# Altium schematic symbol library 1.5 - 精密运放-比较器.SchLib: 533 symbols (part 4 of 4)
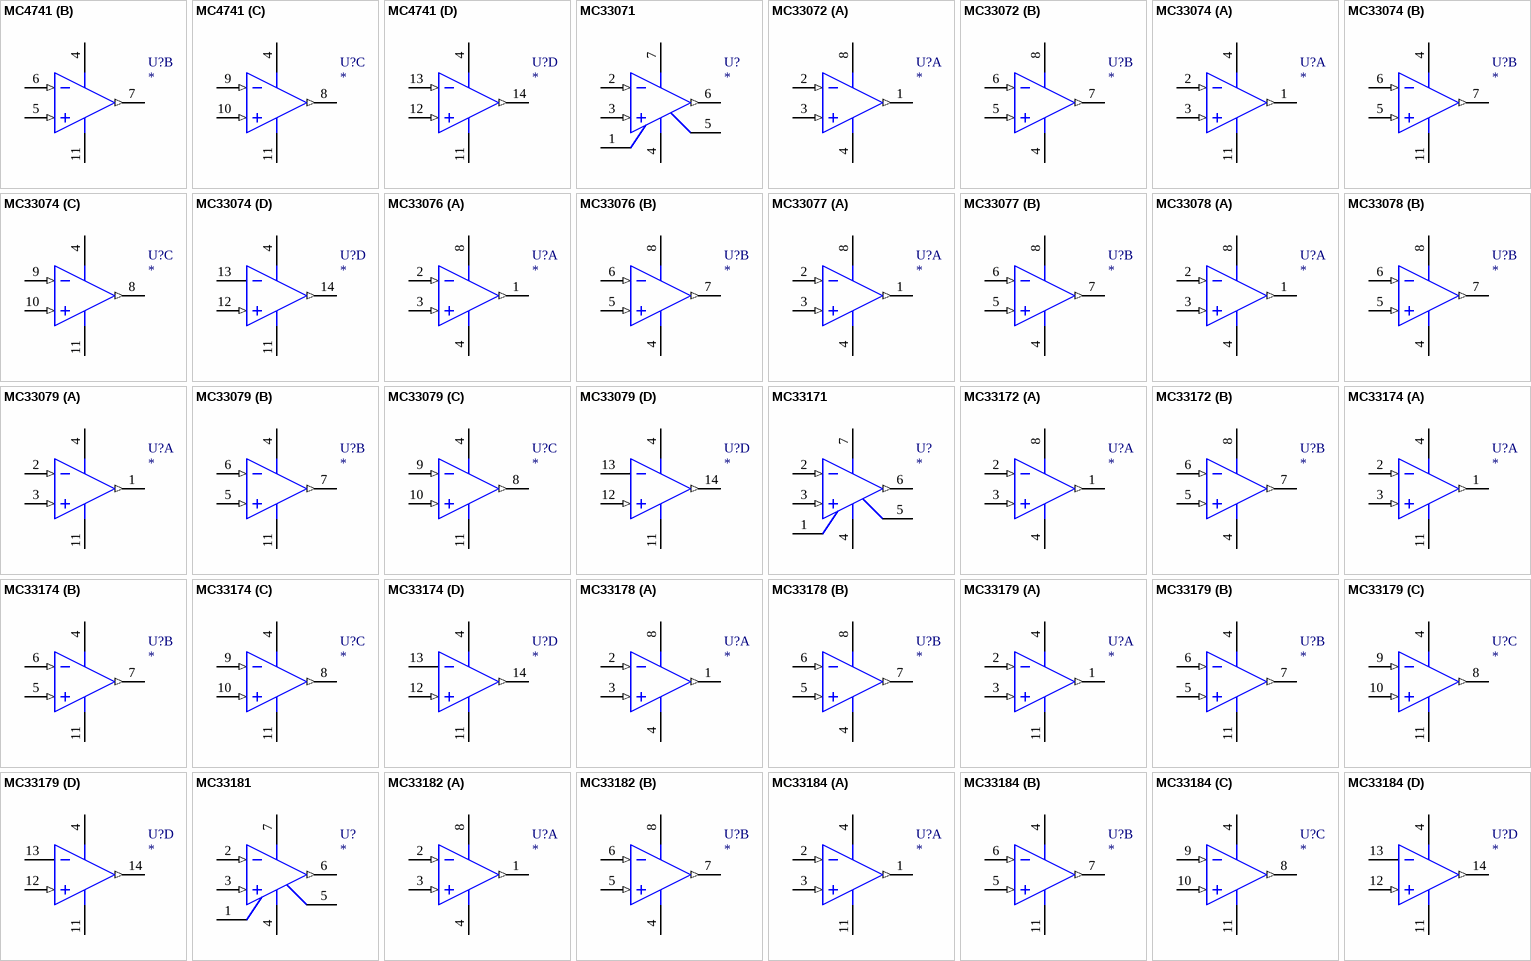
[diagram p26: symbols MC4741 to MC33184]

## MC33178
designator U?
Dual High Output Current, Low Power, Low Noise Operational Amplifier; 联系卖家 免费查找封装: 唯一出售店铺网址https://shop463601444.taobao.com
simulation model MC33178 (SUBCKT)
part A pins: 1 OUT A (out), 2 -IN A (in), 3 +IN A (in), 4 V- (power), 8 V+ (power)
part B pins: 4 V- (power), 5 +IN B (in), 6 -IN B (in), 7 OUT B (out), 8 V+ (power)

## MC33179
designator U?
Quad High Output Current, Low Power, Low Noise Operational Amplifier; 联系卖家 免费查找封装: 唯一出售店铺网址https://shop463601444.taobao.com
simulation model MC33179 (SUBCKT)
part A pins: 1 OUT (out), 2 -IN 1 (in), 3 +IN 1 (in), 4 V+ (power), 11 V- (power)
part B pins: 4 V+ (power), 5 +IN 2 (in), 6 -IN 2 (in), 7 OUT 2 (out), 11 V- (power)
part C pins: 4 V+ (power), 8 OUT 3 (out), 9 -IN 3 (in), 10 +IN 3 (in), 11 V- (power)
part D pins: 4 V+ (power), 11 V- (power), 12 +IN 4 (in), 13 -IN 4, 14 OUT 4 (out)

## MC33181
designator U?
Low Power JFET Input Operational Amplifier; 联系卖家 免费查找封装: 唯一出售店铺网址https://shop463601444.taobao.com
simulation model MC33181 (SUBCKT)
pins: 1 OFFSET NULL, 2 -IN (in), 3 +IN (in), 4 V- (power), 5 OFFSET NULL, 6 OUT (out), 7 V+ (power)

## MC33182
designator U?
Dual Low Power JFET Input Operational Amplifier; 联系卖家 免费查找封装: 唯一出售店铺网址https://shop463601444.taobao.com
simulation model MC33182 (SUBCKT)
part A pins: 1 OUT A (out), 2 -IN A (in), 3 +IN A (in), 4 V- (power), 8 V+ (power)
part B pins: 4 V- (power), 5 +IN B (in), 6 -IN B (in), 7 OUT B (out), 8 V+ (power)

## MC33184
designator U?
Quad Low Power JFET Input Operational Amplifier; 联系卖家 免费查找封装: 唯一出售店铺网址https://shop463601444.taobao.com
simulation model MC33184 (SUBCKT)
part A pins: 1 OUT (out), 2 -IN 1 (in), 3 +IN 1 (in), 4 V+ (power), 11 V- (power)
part B pins: 4 V+ (power), 5 +IN 2 (in), 6 -IN 2 (in), 7 OUT 2 (out), 11 V- (power)
part C pins: 4 V+ (power), 8 OUT 3 (out), 9 -IN 3 (in), 10 +IN 3 (in), 11 V- (power)
part D pins: 4 V+ (power), 11 V- (power), 12 +IN 4 (in), 13 -IN 4, 14 OUT 4 (out)

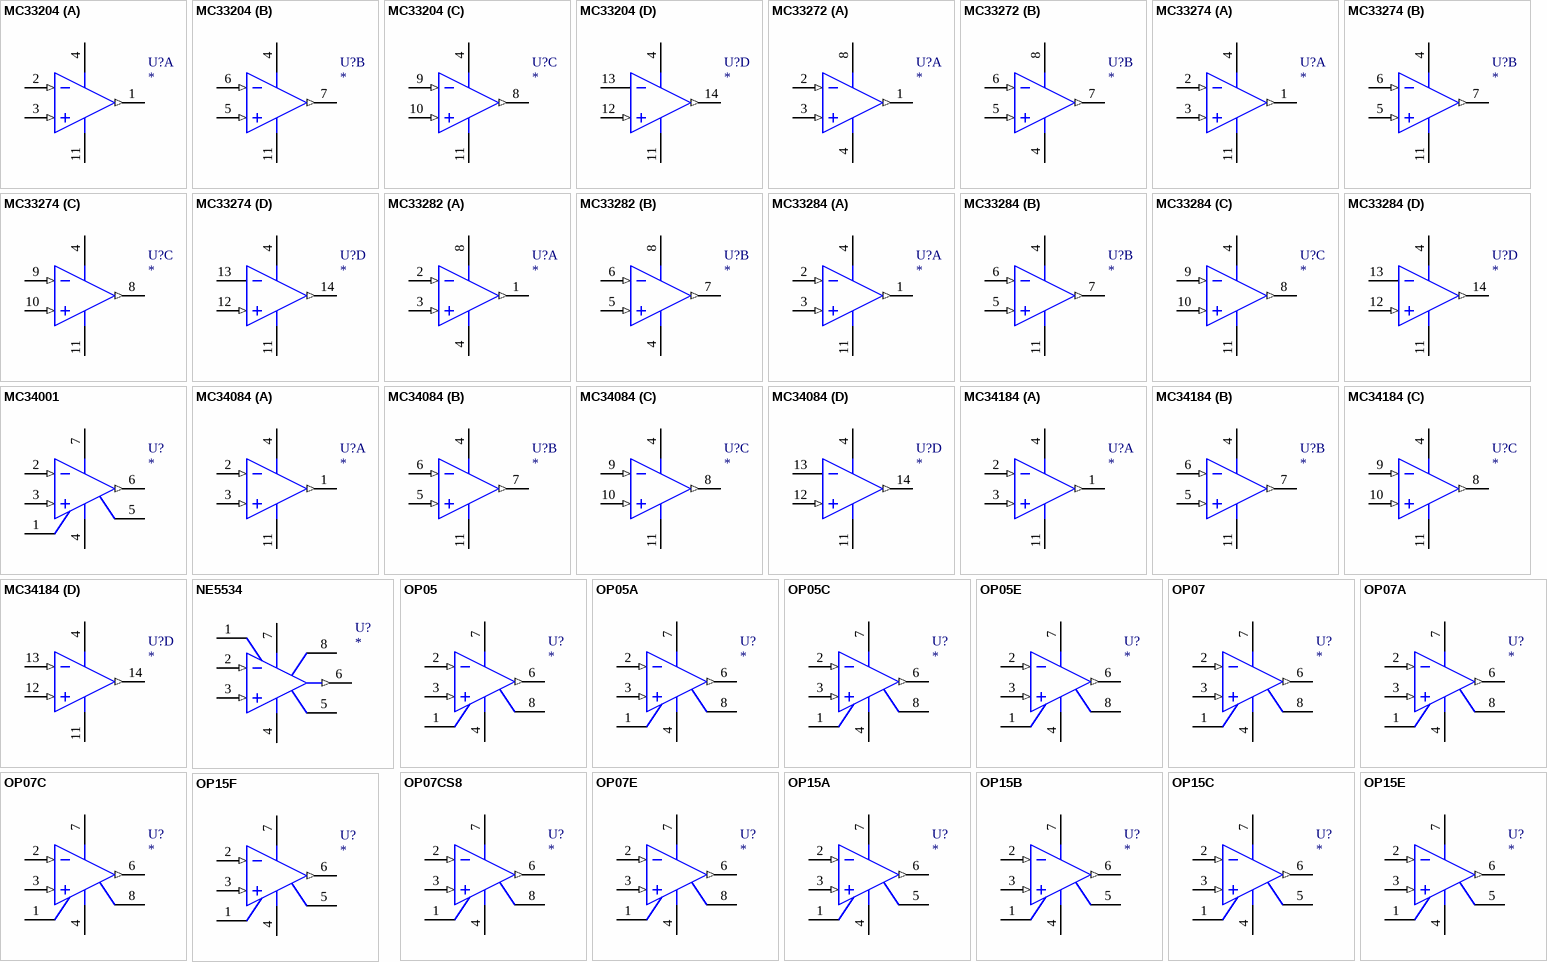
[diagram p20: symbols MC33204 to OP15F]

## MC33204
designator U?
Quad Rail-to-Rail Operational Amplifier; 联系卖家 免费查找封装: 唯一出售店铺网址https://shop463601444.taobao.com
simulation model MC33204 (SUBCKT)
part A pins: 1 OUT (out), 2 -IN 1 (in), 3 +IN 1 (in), 4 V+ (power), 11 V- (power)
part B pins: 4 V+ (power), 5 +IN 2 (in), 6 -IN 2 (in), 7 OUT 2 (out), 11 V- (power)
part C pins: 4 V+ (power), 8 OUT 3 (out), 9 -IN 3 (in), 10 +IN 3 (in), 11 V- (power)
part D pins: 4 V+ (power), 11 V- (power), 12 +IN 4 (in), 13 -IN 4, 14 OUT 4 (out)

## MC33272
designator U?
Dual High Performance Operational Amplifier; 联系卖家 免费查找封装: 唯一出售店铺网址https://shop463601444.taobao.com
simulation model MC33272 (SUBCKT)
part A pins: 1 OUT A (out), 2 -IN A (in), 3 +IN A (in), 4 V- (power), 8 V+ (power)
part B pins: 4 V- (power), 5 +IN B (in), 6 -IN B (in), 7 OUT B (out), 8 V+ (power)

## MC33274
designator U?
Quad High Performance Operational Amplifier; 联系卖家 免费查找封装: 唯一出售店铺网址https://shop463601444.taobao.com
simulation model MC33274 (SUBCKT)
part A pins: 1 OUT (out), 2 -IN 1 (in), 3 +IN 1 (in), 4 V+ (power), 11 V- (power)
part B pins: 4 V+ (power), 5 +IN 2 (in), 6 -IN 2 (in), 7 OUT 2 (out), 11 V- (power)
part C pins: 4 V+ (power), 8 OUT 3 (out), 9 -IN 3 (in), 10 +IN 3 (in), 11 V- (power)
part D pins: 4 V+ (power), 11 V- (power), 12 +IN 4 (in), 13 -IN 4, 14 OUT 4 (out)

## MC33282
designator U?
Dual JFET Operational Amplifier; 联系卖家 免费查找封装: 唯一出售店铺网址https://shop463601444.taobao.com
simulation model MC33282 (SUBCKT)
part A pins: 1 OUT A (out), 2 -IN A (in), 3 +IN A (in), 4 V- (power), 8 V+ (power)
part B pins: 4 V- (power), 5 +IN B (in), 6 -IN B (in), 7 OUT B (out), 8 V+ (power)

## MC33284
designator U?
Quad JFET Operational Amplifier; 联系卖家 免费查找封装: 唯一出售店铺网址https://shop463601444.taobao.com
simulation model MC33284 (SUBCKT)
part A pins: 1 OUT (out), 2 -IN 1 (in), 3 +IN 1 (in), 4 V+ (power), 11 V- (power)
part B pins: 4 V+ (power), 5 +IN 2 (in), 6 -IN 2 (in), 7 OUT 2 (out), 11 V- (power)
part C pins: 4 V+ (power), 8 OUT 3 (out), 9 -IN 3 (in), 10 +IN 3 (in), 11 V- (power)
part D pins: 4 V+ (power), 11 V- (power), 12 +IN 4 (in), 13 -IN 4, 14 OUT 4 (out)

## MC34001
designator U?
JFET Input Operational Amplifier; 联系卖家 免费查找封装: 唯一出售店铺网址https://shop463601444.taobao.com
simulation model MC34001 (SUBCKT)
pins: 1 OFFSET NULL, 2 IN- (in), 3 IN+ (in), 4 VEE (power), 5 OFFSET NULL, 6 OUT (out), 7 VCC (power)

## MC34084
designator U?
Quad High Speed JFET Input Operational Amplifier; 联系卖家 免费查找封装: 唯一出售店铺网址https://shop463601444.taobao.com
simulation model MC34084 (SUBCKT)
part A pins: 1 OUT (out), 2 -IN 1 (in), 3 +IN 1 (in), 4 V+ (power), 11 V- (power)
part B pins: 4 V+ (power), 5 +IN 2 (in), 6 -IN 2 (in), 7 OUT 2 (out), 11 V- (power)
part C pins: 4 V+ (power), 8 OUT 3 (out), 9 -IN 3 (in), 10 +IN 3 (in), 11 V- (power)
part D pins: 4 V+ (power), 11 V- (power), 12 +IN 4 (in), 13 -IN 4, 14 OUT 4 (out)

## MC34184
designator U?
Quad Low Power, High Slew Rate, Wide Bandwidth, JFET Input Operational Amplifier; 联系卖家 免费查找封装: 唯一出售店铺网址https://shop463601444.taobao.com
simulation model MC34184 (SUBCKT)
part A pins: 1 OUT (out), 2 IN- (in), 3 IN+ (in), 4 VCC (power), 11 VEE (power)
part B pins: 4 VCC (power), 5 IN+ (in), 6 IN- (in), 7 OUT (out), 11 VEE (power)
part C pins: 4 VCC (power), 8 OUT (out), 9 IN- (in), 10 IN+ (in), 11 VEE (power)
part D pins: 4 VCC (power), 11 VEE (power), 12 IN+ (in), 13 IN- (in), 14 OUT (out)

## NE5534
designator U?
Low-Noise Operational Amplifiers; 联系卖家 免费查找封装: 唯一出售店铺网址https://shop463601444.taobao.com
simulation model NE5534 (SUBCKT)
pins: 1 BAL, 2 IN- (in), 3 IN+ (in), 4 VCC- (power), 5 COMP, 6 OUT (out), 7 VCC+ (power), 8 COMP/BAL

## OP05
designator U?
Operational Amplifier; 联系卖家 免费查找封装: 唯一出售店铺网址https://shop463601444.taobao.com
footprint DIP-8
simulation model OP05 (SUBCKT)
pins: 1 OFFSET ADJUST, 2 -IN (in), 3 +IN (in), 4 V- (power), 6 OUT (out), 7 V+ (power), 8 OFFSET ADJUST

## OP05A
designator U?
Operational Amplifier; 联系卖家 免费查找封装: 唯一出售店铺网址https://shop463601444.taobao.com
footprint DIP-8
simulation model OP05A (SUBCKT)
pins: 1 OFFSET ADJUST, 2 -IN (in), 3 +IN (in), 4 V- (power), 6 OUT (out), 7 V+ (power), 8 OFFSET ADJUST

## OP05C
designator U?
Operational Amplifier; 联系卖家 免费查找封装: 唯一出售店铺网址https://shop463601444.taobao.com
footprint DIP-8
simulation model OP05C (SUBCKT)
pins: 1 OFFSET ADJUST, 2 -IN (in), 3 +IN (in), 4 V- (power), 6 OUT (out), 7 V+ (power), 8 OFFSET ADJUST

## OP05E
designator U?
Operational Amplifier; 联系卖家 免费查找封装: 唯一出售店铺网址https://shop463601444.taobao.com
footprint DIP-8
simulation model OP05E (SUBCKT)
pins: 1 OFFSET ADJUST, 2 -IN (in), 3 +IN (in), 4 V- (power), 6 OUT (out), 7 V+ (power), 8 OFFSET ADJUST

## OP07
designator U?
Precision Operational Amplifier; 联系卖家 免费查找封装: 唯一出售店铺网址https://shop463601444.taobao.com
footprint DIP-8
footprint DIP8
simulation model OP07 (SUBCKT)
pins: 1 TRIM, 2 -IN (in), 3 +IN (in), 4 V- (power), 6 OUT (out), 7 V+ (power), 8 TRIM

## OP07A
designator U?
Precision Operational Amplifier; 联系卖家 免费查找封装: 唯一出售店铺网址https://shop463601444.taobao.com
footprint DIP-8
footprint DIP8
simulation model OP07A (SUBCKT)
pins: 1 TRIM, 2 -IN (in), 3 +IN (in), 4 V- (power), 6 OUT (out), 7 V+ (power), 8 TRIM

## OP07C
designator U?
Precision Operational Amplifier; 联系卖家 免费查找封装: 唯一出售店铺网址https://shop463601444.taobao.com
footprint DIP-8
footprint DIP8
simulation model OP07C (SUBCKT)
pins: 1 TRIM, 2 -IN (in), 3 +IN (in), 4 V- (power), 6 OUT (out), 7 V+ (power), 8 TRIM

## OP07CS8
designator U?
Precision Operational Amplifier; 联系卖家 免费查找封装: 唯一出售店铺网址https://shop463601444.taobao.com
footprint DIP-8
footprint DIP8
simulation model OP07CS8 (SUBCKT)
pins: 1 TRIM, 2 -IN (in), 3 +IN (in), 4 V- (power), 6 OUT (out), 7 V+ (power), 8 TRIM

## OP07E
designator U?
Precision Operational Amplifier; 联系卖家 免费查找封装: 唯一出售店铺网址https://shop463601444.taobao.com
footprint DIP-8
footprint DIP8
simulation model OP07E (SUBCKT)
pins: 1 TRIM, 2 -IN (in), 3 +IN (in), 4 V- (power), 6 OUT (out), 7 V+ (power), 8 TRIM

## OP15A
designator U?
Precision, High Speed JFET-Input Operational Amplifier; 联系卖家 免费查找封装: 唯一出售店铺网址https://shop463601444.taobao.com
simulation model OP15A (SUBCKT)
pins: 1 TRIM, 2 -IN (in), 3 +IN (in), 4 V- (power), 5 TRIM, 6 OUT (out), 7 V+ (power)

## OP15B
designator U?
Precision, High Speed JFET-Input Operational Amplifier; 联系卖家 免费查找封装: 唯一出售店铺网址https://shop463601444.taobao.com
simulation model OP15B (SUBCKT)
pins: 1 TRIM, 2 -IN (in), 3 +IN (in), 4 V- (power), 5 TRIM, 6 OUT (out), 7 V+ (power)

## OP15C
designator U?
Precision, High Speed JFET-Input Operational Amplifier; 联系卖家 免费查找封装: 唯一出售店铺网址https://shop463601444.taobao.com
simulation model OP15C (SUBCKT)
pins: 1 TRIM, 2 -IN (in), 3 +IN (in), 4 V- (power), 5 TRIM, 6 OUT (out), 7 V+ (power)

## OP15E
designator U?
Precision, High Speed JFET-Input Operational Amplifier; 联系卖家 免费查找封装: 唯一出售店铺网址https://shop463601444.taobao.com
simulation model OP15E (SUBCKT)
pins: 1 TRIM, 2 -IN (in), 3 +IN (in), 4 V- (power), 5 TRIM, 6 OUT (out), 7 V+ (power)

## OP15F
designator U?
Precision, High Speed JFET-Input Operational Amplifier; 联系卖家 免费查找封装: 唯一出售店铺网址https://shop463601444.taobao.com
simulation model OP15F (SUBCKT)
pins: 1 TRIM, 2 -IN (in), 3 +IN (in), 4 V- (power), 5 TRIM, 6 OUT (out), 7 V+ (power)

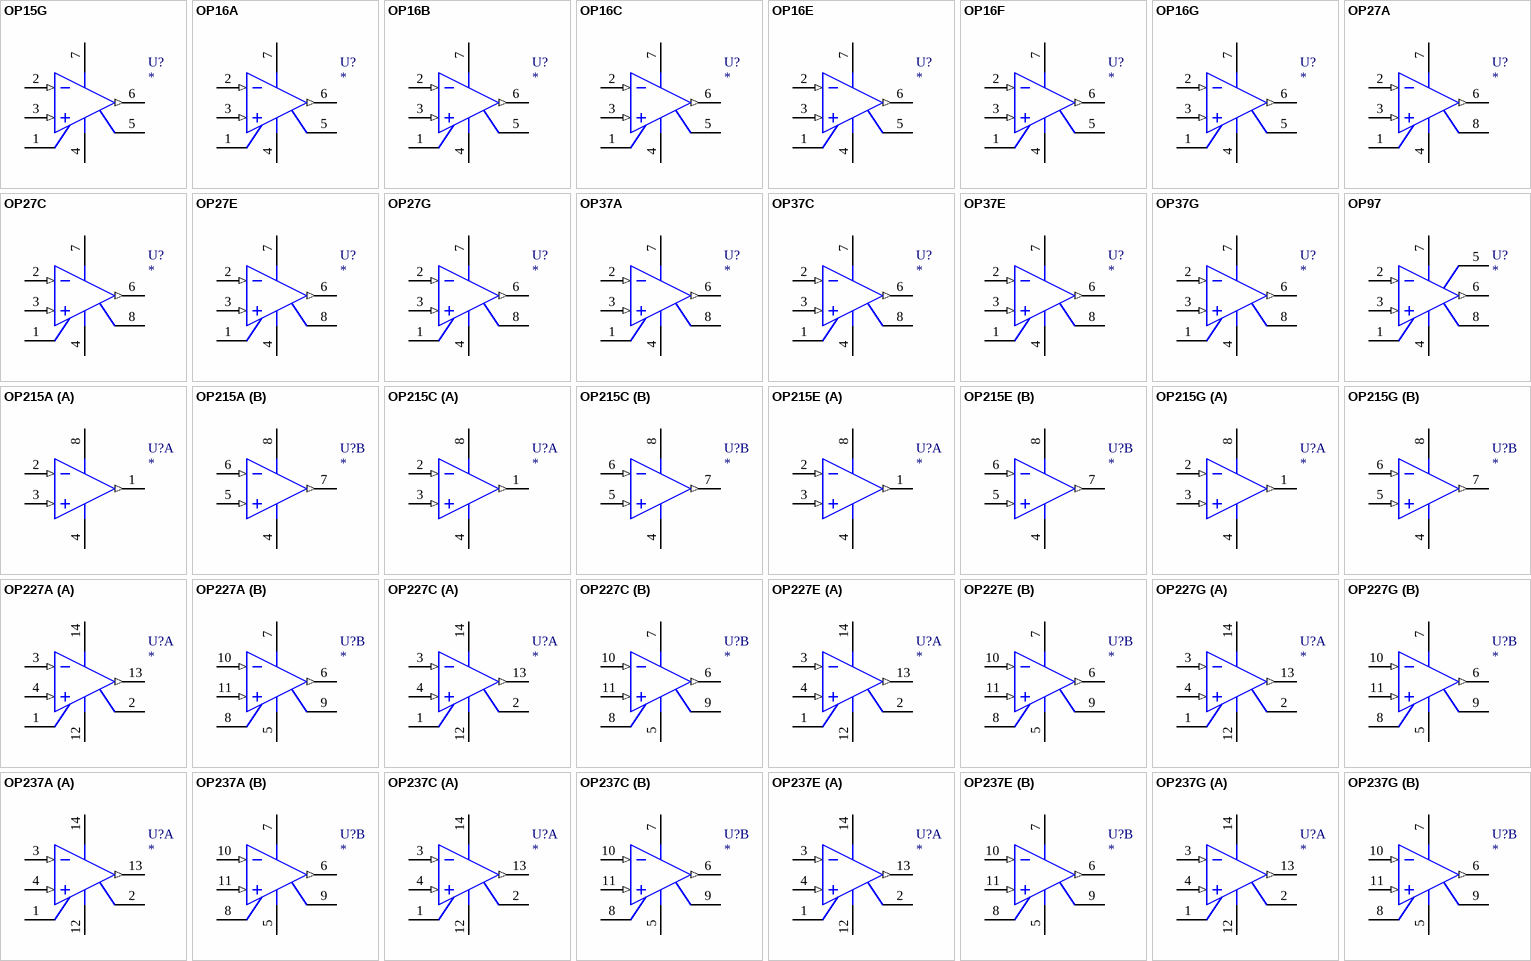
[diagram p21: symbols OP15G to OP237G]

## OP15G
designator U?
Precision, High Speed JFET-Input Operational Amplifier; 联系卖家 免费查找封装: 唯一出售店铺网址https://shop463601444.taobao.com
simulation model OP15G (SUBCKT)
pins: 1 TRIM, 2 -IN (in), 3 +IN (in), 4 V- (power), 5 TRIM, 6 OUT (out), 7 V+ (power)

## OP16A
designator U?
Precision, High Speed JFET-Input Operational Amplifier; 联系卖家 免费查找封装: 唯一出售店铺网址https://shop463601444.taobao.com
simulation model OP16A (SUBCKT)
pins: 1 TRIM, 2 -IN (in), 3 +IN (in), 4 V- (power), 5 TRIM, 6 OUT (out), 7 V+ (power)

## OP16B
designator U?
Precision, High Speed JFET-Input Operational Amplifier; 联系卖家 免费查找封装: 唯一出售店铺网址https://shop463601444.taobao.com
simulation model OP16B (SUBCKT)
pins: 1 TRIM, 2 -IN (in), 3 +IN (in), 4 V- (power), 5 TRIM, 6 OUT (out), 7 V+ (power)

## OP16C
designator U?
Precision, High Speed JFET-Input Operational Amplifier; 联系卖家 免费查找封装: 唯一出售店铺网址https://shop463601444.taobao.com
simulation model OP16C (SUBCKT)
pins: 1 TRIM, 2 -IN (in), 3 +IN (in), 4 V- (power), 5 TRIM, 6 OUT (out), 7 V+ (power)

## OP16E
designator U?
Precision, High Speed JFET-Input Operational Amplifier; 联系卖家 免费查找封装: 唯一出售店铺网址https://shop463601444.taobao.com
simulation model OP16E (SUBCKT)
pins: 1 TRIM, 2 -IN (in), 3 +IN (in), 4 V- (power), 5 TRIM, 6 OUT (out), 7 V+ (power)

## OP16F
designator U?
Precision, High Speed JFET-Input Operational Amplifier; 联系卖家 免费查找封装: 唯一出售店铺网址https://shop463601444.taobao.com
simulation model OP16F (SUBCKT)
pins: 1 TRIM, 2 -IN (in), 3 +IN (in), 4 V- (power), 5 TRIM, 6 OUT (out), 7 V+ (power)

## OP16G
designator U?
Precision, High Speed JFET-Input Operational Amplifier; 联系卖家 免费查找封装: 唯一出售店铺网址https://shop463601444.taobao.com
simulation model OP16G (SUBCKT)
pins: 1 TRIM, 2 -IN (in), 3 +IN (in), 4 V- (power), 5 TRIM, 6 OUT (out), 7 V+ (power)

## OP27A
designator U?
Low Noise, High Speed Precision Operational Amplifier; 联系卖家 免费查找封装: 唯一出售店铺网址https://shop463601444.taobao.com
simulation model OP27A (SUBCKT)
pins: 1 TRIM, 2 -IN (in), 3 +IN (in), 4 V- (power), 6 OUT (out), 7 V+ (power), 8 TRIM

## OP27C
designator U?
Low Noise, High Speed Precision Operational Amplifier; 联系卖家 免费查找封装: 唯一出售店铺网址https://shop463601444.taobao.com
simulation model OP27C (SUBCKT)
pins: 1 TRIM, 2 -IN (in), 3 +IN (in), 4 V- (power), 6 OUT (out), 7 V+ (power), 8 TRIM

## OP27E
designator U?
Low Noise, High Speed Precision Operational Amplifier; 联系卖家 免费查找封装: 唯一出售店铺网址https://shop463601444.taobao.com
simulation model OP27E (SUBCKT)
pins: 1 TRIM, 2 -IN (in), 3 +IN (in), 4 V- (power), 6 OUT (out), 7 V+ (power), 8 TRIM

## OP27G
designator U?
Low Noise, High Speed Precision Operational Amplifier; 联系卖家 免费查找封装: 唯一出售店铺网址https://shop463601444.taobao.com
simulation model OP27G (SUBCKT)
pins: 1 TRIM, 2 -IN (in), 3 +IN (in), 4 V- (power), 6 OUT (out), 7 V+ (power), 8 TRIM

## OP37A
designator U?
Low Noise, High Speed Precision Operational Amplifier; 联系卖家 免费查找封装: 唯一出售店铺网址https://shop463601444.taobao.com
footprint DIP-8
simulation model OP37A (SUBCKT)
pins: 1 TRIM, 2 -IN (in), 3 +IN (in), 4 V- (power), 6 OUT (out), 7 V+ (power), 8 TRIM

## OP37C
designator U?
Low Noise, High Speed Precision Operational Amplifier; 联系卖家 免费查找封装: 唯一出售店铺网址https://shop463601444.taobao.com
footprint DIP-8
simulation model OP37C (SUBCKT)
pins: 1 TRIM, 2 -IN (in), 3 +IN (in), 4 V- (power), 6 OUT (out), 7 V+ (power), 8 TRIM

## OP37E
designator U?
Low Noise, High Speed Precision Operational Amplifier; 联系卖家 免费查找封装: 唯一出售店铺网址https://shop463601444.taobao.com
footprint DIP-8
simulation model OP37E (SUBCKT)
pins: 1 TRIM, 2 -IN (in), 3 +IN (in), 4 V- (power), 6 OUT (out), 7 V+ (power), 8 TRIM

## OP37G
designator U?
Low Noise, High Speed Precision Operational Amplifier; 联系卖家 免费查找封装: 唯一出售店铺网址https://shop463601444.taobao.com
footprint DIP-8
simulation model OP37G (SUBCKT)
pins: 1 TRIM, 2 -IN (in), 3 +IN (in), 4 V- (power), 6 OUT (out), 7 V+ (power), 8 TRIM

## OP97
designator U?
Voltage-Feedback Operational Amplifier; 联系卖家 免费查找封装: 唯一出售店铺网址https://shop463601444.taobao.com
simulation model OP97 (SUBCKT)
pins: 1 TRIM, 2 -IN (in), 3 +IN (in), 4 V- (power), 5 OVER COMP, 6 OUT (out), 7 V+ (power), 8 TRIM

## OP215A
designator U?
Dual Precision JFET Input Operational Amplifier; 联系卖家 免费查找封装: 唯一出售店铺网址https://shop463601444.taobao.com
simulation model OP215A (SUBCKT)
part A pins: 1 OUT A (out), 2 -IN A (in), 3 +IN A (in), 4 V- (power), 8 V+ (power)
part B pins: 4 V- (power), 5 +IN B (in), 6 -IN B (in), 7 OUT B (out), 8 V+ (power)

## OP215C
designator U?
Dual Precision JFET Input Operational Amplifier; 联系卖家 免费查找封装: 唯一出售店铺网址https://shop463601444.taobao.com
simulation model OP215C (SUBCKT)
part A pins: 1 OUT A (out), 2 -IN A (in), 3 +IN A (in), 4 V- (power), 8 V+ (power)
part B pins: 4 V- (power), 5 +IN B (in), 6 -IN B (in), 7 OUT B (out), 8 V+ (power)

## OP215E
designator U?
Dual Precision JFET Input Operational Amplifier; 联系卖家 免费查找封装: 唯一出售店铺网址https://shop463601444.taobao.com
simulation model OP215E (SUBCKT)
part A pins: 1 OUT A (out), 2 -IN A (in), 3 +IN A (in), 4 V- (power), 8 V+ (power)
part B pins: 4 V- (power), 5 +IN B (in), 6 -IN B (in), 7 OUT B (out), 8 V+ (power)

## OP215G
designator U?
Dual Precision JFET Input Operational Amplifier; 联系卖家 免费查找封装: 唯一出售店铺网址https://shop463601444.taobao.com
simulation model OP215G (SUBCKT)
part A pins: 1 OUT A (out), 2 -IN A (in), 3 +IN A (in), 4 V- (power), 8 V+ (power)
part B pins: 4 V- (power), 5 +IN B (in), 6 -IN B (in), 7 OUT B (out), 8 V+ (power)

## OP227A
designator U?
Dual Matched Low Noise Precision Operational Amplifier; 联系卖家 免费查找封装: 唯一出售店铺网址https://shop463601444.taobao.com
simulation model OP227A (SUBCKT)
part A pins: 1 NULL(A), 2 NULL(A), 3 -IN(A) (in), 4 +IN(A) (in), 12 V-(A) (power), 13 OUT(A) (out), 14 V+(A) (power)
part B pins: 5 V-(B) (power), 6 OUT(B) (out), 7 V+(B) (power), 8 NULL(B), 9 NULL(B), 10 -IN(B) (in), 11 +IN(B) (in)

## OP227C
designator U?
Dual Matched Low Noise Precision Operational Amplifier; 联系卖家 免费查找封装: 唯一出售店铺网址https://shop463601444.taobao.com
simulation model OP227C (SUBCKT)
part A pins: 1 NULL(A), 2 NULL(A), 3 -IN(A) (in), 4 +IN(A) (in), 12 V-(A) (power), 13 OUT(A) (out), 14 V+(A) (power)
part B pins: 5 V-(B) (power), 6 OUT(B) (out), 7 V+(B) (power), 8 NULL(B), 9 NULL(B), 10 -IN(B) (in), 11 +IN(B) (in)

## OP227E
designator U?
Dual Matched Low Noise Precision Operational Amplifier; 联系卖家 免费查找封装: 唯一出售店铺网址https://shop463601444.taobao.com
simulation model OP227E (SUBCKT)
part A pins: 1 NULL(A), 2 NULL(A), 3 -IN(A) (in), 4 +IN(A) (in), 12 V-(A) (power), 13 OUT(A) (out), 14 V+(A) (power)
part B pins: 5 V-(B) (power), 6 OUT(B) (out), 7 V+(B) (power), 8 NULL(B), 9 NULL(B), 10 -IN(B) (in), 11 +IN(B) (in)

## OP227G
designator U?
Dual Matched Low Noise Precision Operational Amplifier; 联系卖家 免费查找封装: 唯一出售店铺网址https://shop463601444.taobao.com
simulation model OP227G (SUBCKT)
part A pins: 1 NULL(A), 2 NULL(A), 3 -IN(A) (in), 4 +IN(A) (in), 12 V-(A) (power), 13 OUT(A) (out), 14 V+(A) (power)
part B pins: 5 V-(B) (power), 6 OUT(B) (out), 7 V+(B) (power), 8 NULL(B), 9 NULL(B), 10 -IN(B) (in), 11 +IN(B) (in)

## OP237A
designator U?
Dual High Speed Low Noise Precision Operational Amplifier; 联系卖家 免费查找封装: 唯一出售店铺网址https://shop463601444.taobao.com
footprint DIP-14
simulation model OP237A (SUBCKT)
part A pins: 1 NULL(A), 2 NULL(A), 3 -IN(A) (in), 4 +IN(A) (in), 12 V-(A) (power), 13 OUT(A) (out), 14 V+(A) (power)
part B pins: 5 V-(B) (power), 6 OUT(B) (out), 7 V+(B) (power), 8 NULL(B), 9 NULL(B), 10 -IN(B) (in), 11 +IN(B) (in)

## OP237C
designator U?
Dual High Speed Low Noise Precision Operational Amplifier; 联系卖家 免费查找封装: 唯一出售店铺网址https://shop463601444.taobao.com
footprint DIP-14
simulation model OP237C (SUBCKT)
part A pins: 1 NULL(A), 2 NULL(A), 3 -IN(A) (in), 4 +IN(A) (in), 12 V-(A) (power), 13 OUT(A) (out), 14 V+(A) (power)
part B pins: 5 V-(B) (power), 6 OUT(B) (out), 7 V+(B) (power), 8 NULL(B), 9 NULL(B), 10 -IN(B) (in), 11 +IN(B) (in)

## OP237E
designator U?
Dual High Speed Low Noise Precision Operational Amplifier; 联系卖家 免费查找封装: 唯一出售店铺网址https://shop463601444.taobao.com
footprint DIP-14
simulation model OP237E (SUBCKT)
part A pins: 1 NULL(A), 2 NULL(A), 3 -IN(A) (in), 4 +IN(A) (in), 12 V-(A) (power), 13 OUT(A) (out), 14 V+(A) (power)
part B pins: 5 V-(B) (power), 6 OUT(B) (out), 7 V+(B) (power), 8 NULL(B), 9 NULL(B), 10 -IN(B) (in), 11 +IN(B) (in)

## OP237G
designator U?
Dual High Speed Low Noise Precision Operational Amplifier; 联系卖家 免费查找封装: 唯一出售店铺网址https://shop463601444.taobao.com
footprint DIP-14
simulation model OP237G (SUBCKT)
part A pins: 1 NULL(A), 2 NULL(A), 3 -IN(A) (in), 4 +IN(A) (in), 12 V-(A) (power), 13 OUT(A) (out), 14 V+(A) (power)
part B pins: 5 V-(B) (power), 6 OUT(B) (out), 7 V+(B) (power), 8 NULL(B), 9 NULL(B), 10 -IN(B) (in), 11 +IN(B) (in)

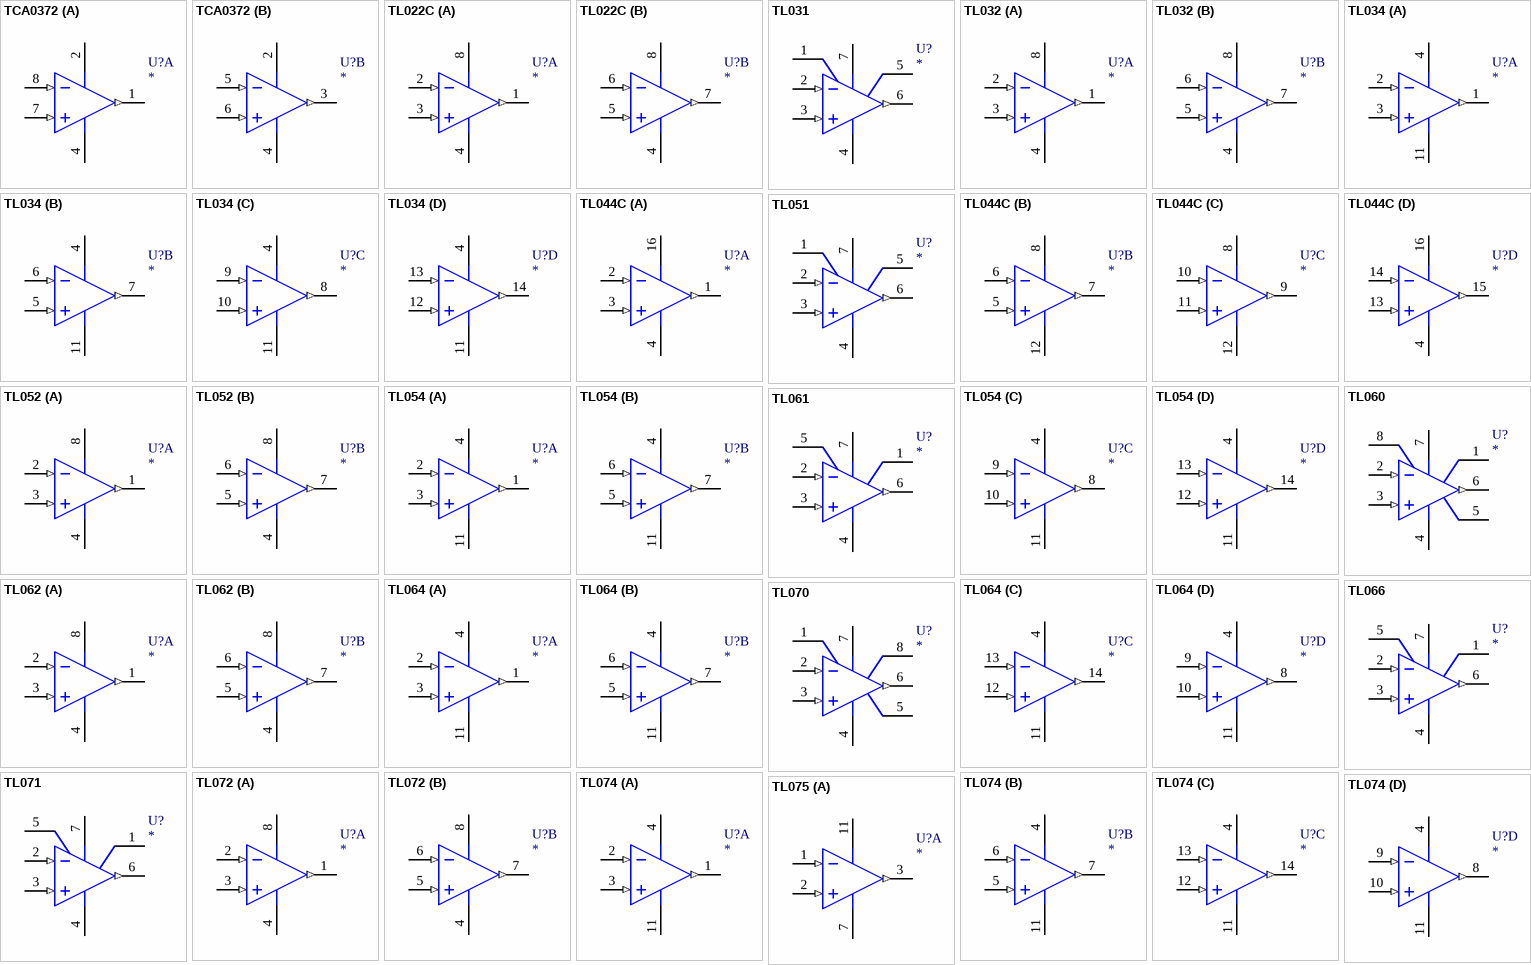
[diagram p22: symbols TCA0372 to TL075]

## TCA0372
designator U?
Dual Power Operational Amplifier; 联系卖家 免费查找封装: 唯一出售店铺网址https://shop463601444.taobao.com
footprint DIP-8
simulation model TCA0372 (SUBCKT)
part A pins: 1 OUT A (out), 2 V+ (power), 4 V- (power), 7 +IN A (in), 8 -IN A (in)
part B pins: 2 V+ (power), 3 OUT A (out), 4 V- (power), 5 -IN B (in), 6 +IN B (in)

## TL022C
designator U?
Dual Low-Power Operational Amplifier; 联系卖家 免费查找封装: 唯一出售店铺网址https://shop463601444.taobao.com
simulation model TL022C (SUBCKT)
part A pins: 1 OUT1 (out), 2 IN- (in), 3 IN+ (in), 4 VCC- (power), 8 VCC+ (power)
part B pins: 4 VCC- (power), 5 IN+ (in), 6 IN- (in), 7 OUT (out), 8 VCC+ (power)

## TL031
designator U?
Enhanced JFET Low-Power Operational Amplifier; 联系卖家 免费查找封装: 唯一出售店铺网址https://shop463601444.taobao.com
footprint DIP-8
simulation model TL031 (SUBCKT)
pins: 1 O.S. N1, 2 IN- (in), 3 IN+ (in), 4 VCC- (power), 5 O.S. N2, 6 OUT (out), 7 VCC+ (power)

## TL032
designator U?
Enhanced JFET Low-Power Low-Offset Dual Operational Amplifiers; 联系卖家 免费查找封装: 唯一出售店铺网址https://shop463601444.taobao.com
footprint DIP-8
simulation model TL032 (SUBCKT)
part A pins: 1 OUT1 (out), 2 IN- (in), 3 IN+ (in), 4 VCC- (power), 8 VCC+ (power)
part B pins: 4 VCC- (power), 5 IN2+ (in), 6 IN2- (in), 7 OUT2 (out), 8 VCC+ (power)

## TL034
designator U?
Enhanced JFET Low-Power Low-Offset QUAD Operational Amplifiers; 联系卖家 免费查找封装: 唯一出售店铺网址https://shop463601444.taobao.com
simulation model TL034 (SUBCKT)
part A pins: 1 OUT1 (out), 2 IN1- (in), 3 IN1+ (in), 4 VCC+ (power), 11 VCC- (power)
part B pins: 4 VCC+ (power), 5 IN2+ (in), 6 IN2- (in), 7 OUT2 (out), 11 VCC- (power)
part C pins: 4 VCC+ (power), 8 OUT3 (out), 9 IN3- (in), 10 IN3+ (in), 11 VCC- (power)
part D pins: 4 VCC+ (power), 11 VCC- (power), 12 IN4+ (in), 13 IN4- (in), 14 OUT4 (out)

## TL044C
designator U?
Quad Low-Power Operational Amplifiers; 联系卖家 免费查找封装: 唯一出售店铺网址https://shop463601444.taobao.com
simulation model TL044C (SUBCKT)
part A pins: 1 OUT1 (out), 2 IN1- (in), 3 IN1+ (in), 4 VCC- (power), 16 VCC+ (power)
part B pins: 5 IN2+ (in), 6 IN2- (in), 7 OUT2 (out), 8 VCC+ (power), 12 VCC- (power)
part C pins: 8 VCC+ (power), 9 OUT3 (out), 10 IN3- (in), 11 IN3+ (in), 12 VCC- (power)
part D pins: 4 VCC- (power), 13 IN4+ (in), 14 IN4- (in), 15 OUT4 (out), 16 VCC+ (power)

## TL051
designator U?
Enhanced JFET Precision Operational Amplifiers; 联系卖家 免费查找封装: 唯一出售店铺网址https://shop463601444.taobao.com
simulation model TL051 (SUBCKT)
pins: 1 O.S. N1, 2 IN- (in), 3 IN+ (in), 4 VCC- (power), 5 O.S. N2, 6 OUT (out), 7 VCC+ (power)

## TL052
designator U?
Enhanced JFET Precision Dual Operational Amplifiers; 联系卖家 免费查找封装: 唯一出售店铺网址https://shop463601444.taobao.com
simulation model TL052 (SUBCKT)
part A pins: 1 OUT1 (out), 2 IN1- (in), 3 IN1+ (in), 4 VCC- (power), 8 VCC+ (power)
part B pins: 4 VCC- (power), 5 IN2+ (in), 6 IN2- (in), 7 OUT2 (out), 8 VCC+ (power)

## TL054
designator U?
Quad Low-Power Operational Amplifiers; 联系卖家 免费查找封装: 唯一出售店铺网址https://shop463601444.taobao.com
simulation model TL054 (SUBCKT)
part A pins: 1 OUT1 (out), 2 IN1- (in), 3 IN1+ (in), 4 VCC+ (power), 11 VCC- (power)
part B pins: 4 VCC+ (power), 5 IN2+ (in), 6 IN2- (in), 7 OUT2 (out), 11 VCC- (power)
part C pins: 4 VCC+ (power), 8 OUT3 (out), 9 IN3- (in), 10 IN3+ (in), 11 VCC- (power)
part D pins: 4 VCC+ (power), 11 VCC- (power), 12 IN4+ (in), 13 IN4- (in), 14 OUT4 (out)

## TL060
designator U?
Low-Power JFET-Input Operational Amplifiers; 联系卖家 免费查找封装: 唯一出售店铺网址https://shop463601444.taobao.com
simulation model TL060 (SUBCKT)
pins: 1 N1/COMP, 2 IN- (in), 3 IN+ (in), 4 VCC- (power), 5 O.S. N2, 6 OUT (out), 7 VCC+ (power), 8 COMP

## TL061
designator U?
Low-Power JFET-Input Operational Amplifiers; 联系卖家 免费查找封装: 唯一出售店铺网址https://shop463601444.taobao.com
simulation model TL061 (SUBCKT)
pins: 1 O.S N1, 2 IN- (in), 3 IN+ (in), 4 VCC- (power), 5 O.S. N2, 6 OUT (out), 7 VCC+ (power)

## TL062
designator U?
Low-Power JFET-Input Operational Amplifier; 联系卖家 免费查找封装: 唯一出售店铺网址https://shop463601444.taobao.com
simulation model TL062 (SUBCKT)
part A pins: 1 OUT1 (out), 2 IN1- (in), 3 IN1+ (in), 4 VCC- (power), 8 VCC+ (power)
part B pins: 4 VCC- (power), 5 IN2+ (in), 6 IN2- (in), 7 OUT2 (out), 8 VCC+ (power)

## TL064
designator U?
Low-Power JFET-Input Operational Amplifiers; 联系卖家 免费查找封装: 唯一出售店铺网址https://shop463601444.taobao.com
simulation model TL064 (SUBCKT)
part A pins: 1 OUT1 (out), 2 IN1- (in), 3 IN1+ (in), 4 VCC+ (power), 11 VCC- (power)
part B pins: 4 VCC+ (power), 5 IN2+ (in), 6 IN2- (in), 7 OUT2 (out), 11 VCC- (power)
part C pins: 4 VCC+ (power), 11 VCC- (power), 12 IN3+ (in), 13 IN3- (in), 14 OUT3 (out)
part D pins: 4 VCC+ (power), 8 OUT4 (out), 9 IN4- (in), 10 IN4+ (in), 11 VCC- (power)

## TL066
designator U?
Adjustable Low-Power JFET-Input Operational Amplifiers; 联系卖家 免费查找封装: 唯一出售店铺网址https://shop463601444.taobao.com
simulation model TL066 (SUBCKT)
pins: 1 O.S N1, 2 IN- (in), 3 IN+ (in), 4 VCC- (power), 5 O.S. N2, 6 OUT (out), 7 VCC+ (power)

## TL070
designator U?
Low-Noise  JFET-Input Operational Amplifiers; 联系卖家 免费查找封装: 唯一出售店铺网址https://shop463601444.taobao.com
simulation model TL070 (SUBCKT)
pins: 1 N1/COMP, 2 IN- (in), 3 IN+ (in), 4 VCC- (power), 5 O.S. N2, 6 OUT (out), 7 VCC+ (power), 8 COMP

## TL071
designator U?
Low-Noise  JFET-Input Operational Amplifiers; 联系卖家 免费查找封装: 唯一出售店铺网址https://shop463601444.taobao.com
simulation model TL071 (SUBCKT)
pins: 1 N1/O.S., 2 IN- (in), 3 IN+ (in), 4 VCC- (power), 5 O.S. N2, 6 OUT (out), 7 VCC+ (power)

## TL072
designator U?
Low-Noise JFET-Input Operational Amplifiers; 联系卖家 免费查找封装: 唯一出售店铺网址https://shop463601444.taobao.com
simulation model TL072 (SUBCKT)
part A pins: 1 OUT1 (out), 2 IN1- (in), 3 IN1+ (in), 4 VCC- (power), 8 VCC+ (power)
part B pins: 4 VCC- (power), 5 IN2+ (in), 6 IN2- (in), 7 OUT (out), 8 VCC+ (power)

## TL074
designator U?
Low Noise JFET-Input Operational Amplifiers; 联系卖家 免费查找封装: 唯一出售店铺网址https://shop463601444.taobao.com
simulation model TL074 (SUBCKT)
part A pins: 1 OUT (out), 2 IN1- (in), 3 IN1+ (in), 4 VCC+ (power), 11 VCC- (power)
part B pins: 4 VCC+ (power), 5 IN2+ (in), 6 IN2- (in), 7 OUT (out), 11 VCC- (power)
part C pins: 4 VCC+ (power), 11 VCC- (power), 12 IN3+ (in), 13 IN3- (in), 14 OUT (out)
part D pins: 4 VCC+ (power), 8 OUT (out), 9 IN4- (in), 10 IN4+ (in), 11 VCC- (power)

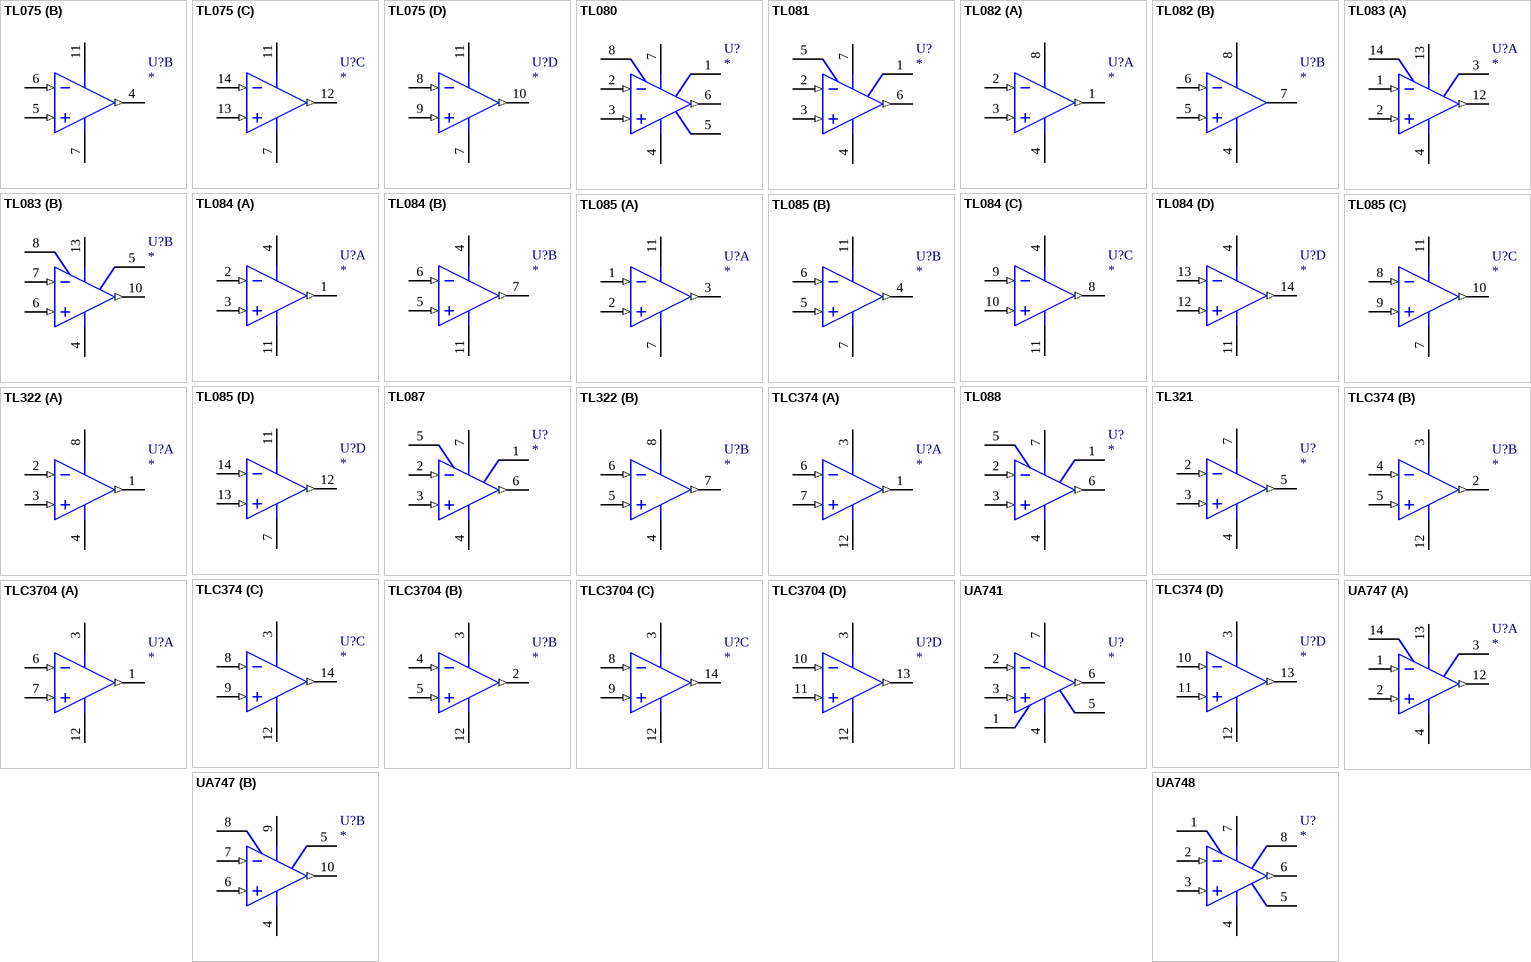
[diagram p23: symbols TL075 to UA748]

## TL075
designator U?
Low Noise JFET-Input Operational Amplifiers; 联系卖家 免费查找封装: 唯一出售店铺网址https://shop463601444.taobao.com
simulation model TL075 (SUBCKT)
part A pins: 1 IN1- (in), 2 IN1+ (in), 3 OUT (out), 7 VCC- (power), 11 VCC+ (power)
part B pins: 4 OUT (out), 5 IN2+ (in), 6 IN2- (in), 7 VCC- (power), 11 VCC+ (power)
part C pins: 7 VCC- (power), 11 VCC+ (power), 12 OUT (out), 13 IN3+ (in), 14 IN3- (in)
part D pins: 7 VCC- (power), 8 IN4- (in), 9 IN4+ (in), 10 OUT (out), 11 VCC+ (power)

## TL080
designator U?
JFET-Input Operational Amplifiers; 联系卖家 免费查找封装: 唯一出售店铺网址https://shop463601444.taobao.com
simulation model TL080 (SUBCKT)
pins: 1 N1/COMP, 2 -IN (in), 3 +IN (in), 4 VCC- (power), 5 O.S. N2, 6 OUT (out), 7 VCC+ (power), 8 COMP

## TL081
designator U?
JFET-Input Operational Amplifiers; 联系卖家 免费查找封装: 唯一出售店铺网址https://shop463601444.taobao.com
simulation model TL081 (SUBCKT)
pins: 1 O.S. N1, 2 -IN (in), 3 +IN (in), 4 VCC- (power), 5 O.S. N2, 6 OUT (out), 7 VCC+ (power)

## TL082
designator U?
JFET-Input Operational Amplifiers; 联系卖家 免费查找封装: 唯一出售店铺网址https://shop463601444.taobao.com
simulation model TL082 (SUBCKT)
part A pins: 1 OUT (out), 2 IN1- (in), 3 IN1+ (in), 4 VCC- (power), 8 VCC+ (power)
part B pins: 4 VCC- (power), 5 IN2+ (in), 6 IN2- (in), 7 OUT, 8 VCC+ (power)

## TL083
designator U?
JFET-Input Operational Amplifiers; 联系卖家 免费查找封装: 唯一出售店铺网址https://shop463601444.taobao.com
simulation model TL083 (SUBCKT)
part A pins: 1 IN1- (in), 2 IN1+ (in), 3 1 O.S.N2, 4 VCC- (power), 12 OUT1 (out), 13 VCC+ (power), 14 1 O.S. N1
part B pins: 4 VCC- (power), 5 2 O.S. N2, 6 IN2+ (in), 7 IN2- (in), 8 2 O.S. N1, 10 OUT (out), 13 VCC+ (power)

## TL084
designator U?
JFET-Input Operational Amplifiers; 联系卖家 免费查找封装: 唯一出售店铺网址https://shop463601444.taobao.com
simulation model TL084 (SUBCKT)
part A pins: 1 OUT (out), 2 IN1- (in), 3 IN1+ (in), 4 VCC+ (power), 11 VCC- (power)
part B pins: 4 VCC+ (power), 5 IN2+ (in), 6 IN2- (in), 7 OUT (out), 11 VCC- (power)
part C pins: 4 VCC+ (power), 8 OUT (out), 9 IN3- (in), 10 IN3+ (in), 11 VCC- (power)
part D pins: 4 VCC+ (power), 11 VCC- (power), 12 IN4+ (in), 13 IN4- (in), 14 OUT (out)

## TL085
designator U?
JFET-Input Operational Amplifier; 联系卖家 免费查找封装: 唯一出售店铺网址https://shop463601444.taobao.com
simulation model TL085 (SUBCKT)
part A pins: 1 IN1- (in), 2 IN2+ (in), 3 OUT (out), 7 VCC- (power), 11 VCC+ (power)
part B pins: 4 OUT (out), 5 IN2+ (in), 6 IN2- (in), 7 VCC- (power), 11 VCC+ (power)
part C pins: 7 VCC- (power), 8 IN3- (in), 9 IN3+ (in), 10 OUT (out), 11 VCC+ (power)
part D pins: 7 VCC- (power), 11 VCC+ (power), 12 OUT (out), 13 IN4+ (in), 14 IN4- (in)

## TL087
designator U?
JFET-Input Operational Amplifiers; 联系卖家 免费查找封装: 唯一出售店铺网址https://shop463601444.taobao.com
footprint DIP-8
simulation model TL087 (SUBCKT)
pins: 1 O.S. N1, 2 -IN (in), 3 +IN (in), 4 VCC- (power), 5 O.S. N2, 6 OUT (out), 7 VCC+ (power)

## TL088
designator U?
JFET-Input Operational Amplifiers; 联系卖家 免费查找封装: 唯一出售店铺网址https://shop463601444.taobao.com
simulation model TL088 (SUBCKT)
pins: 1 O.S. N1, 2 -IN (in), 3 +IN (in), 4 VCC- (power), 5 O.S. N2, 6 OUT (out), 7 VCC+ (power)

## TL321
designator U?
Operational Amplifiers; 联系卖家 免费查找封装: 唯一出售店铺网址https://shop463601444.taobao.com
footprint DIP-8
simulation model TL321 (SUBCKT)
pins: 2 IN- (in), 3 IN+ (in), 4 GND (power), 5 OUT (out), 7 VCC (power)

## TL322
designator U?
Dual Low-Power Operational Amplifiers; 联系卖家 免费查找封装: 唯一出售店铺网址https://shop463601444.taobao.com
footprint DIP-8
simulation model TL322 (SUBCKT)
part A pins: 1 OUT (out), 2 IN1- (in), 3 IN1+ (in), 4 GND (power), 8 VCC+ (power)
part B pins: 4 GND (power), 5 IN2+ (in), 6 IN2- (in), 7 OUT (out), 8 VCC+ (power)

## TLC374
designator U?
Quadruple Differential Comparators; 联系卖家 免费查找封装: 唯一出售店铺网址https://shop463601444.taobao.com
simulation model TLC374 (SUBCKT)
part A pins: 1 OUT (out), 3 VDD (power), 6 IN1- (in), 7 IN1+ (in), 12 GND (power)
part B pins: 2 OUT (out), 3 VDD (power), 4 IN2- (in), 5 IN2+ (in), 12 GND (power)
part C pins: 3 VDD (power), 8 IN3- (in), 9 IN3+ (in), 12 GND (power), 14 OUT (out)
part D pins: 3 VDD (power), 10 IN4- (in), 11 IN4+ (in), 12 GND (power), 13 OUT (out)

## TLC3704
designator U?
Quadruple Micropower Comparators; 联系卖家 免费查找封装: 唯一出售店铺网址https://shop463601444.taobao.com
simulation model TLC3704 (SUBCKT)
part A pins: 1 OUT (out), 3 VDD (power), 6 IN1- (in), 7 IN1+ (in), 12 GND (power)
part B pins: 2 OUT (out), 3 VDD (power), 4 IN2- (in), 5 IN2+ (in), 12 GND (power)
part C pins: 3 VDD (power), 8 IN3- (in), 9 IN3+ (in), 12 GND (power), 14 OUT (out)
part D pins: 3 VDD (power), 10 IN4- (in), 11 IN4+ (in), 12 GND (power), 13 OUT (out)

## UA741
designator U?
General-Purpose Operational Amplifier; 联系卖家 免费查找封装: 唯一出售店铺网址https://shop463601444.taobao.com
footprint DIP-8
simulation model UA741 (SUBCKT)
pins: 1 OFFSET NULL 1, 2 -IN (in), 3 +IN (in), 4 V- (power), 5 OFFSET NULL 2, 6 OUT (out), 7 V+ (power)

## UA747
designator U?
Dual General-Purpose Operational Amplifiers; 联系卖家 免费查找封装: 唯一出售店铺网址https://shop463601444.taobao.com
footprint DIP-14
simulation model UA747 (SUBCKT)
part A pins: 1 IN1- (in), 2 IN1+ (in), 3 O.S. 1N2, 4 VCC- (power), 12 OUT (out), 13 VCC+ (power), 14 O.S. 1N1
part B pins: 4 VCC- (power), 5 O.S. 2N2, 6 IN2+ (in), 7 IN2- (in), 8 O.S. 2N1, 9 VCC+ (power), 10 OUT (out)

## UA748
designator U?
General-Purpose Operational Amplifiers; 联系卖家 免费查找封装: 唯一出售店铺网址https://shop463601444.taobao.com
footprint DIP-8
simulation model UA748 (SUBCKT)
pins: 1 N1/COMP, 2 IN- (in), 3 IN+ (in), 4 VCC- (power), 5 N2, 6 OUT (out), 7 VCC+ (power), 8 COMP